# Altium footprint library GavinPCBLib.PcbLib: 22 footprints (part 2 of 2)
Each footprint in its own frame and in the unit in brackets; x right, y up, seen from the top. Pads: shape width x height; smd on the part's side, far side on the other; paste and mask are expansions set on the pad; w line width, h text height; cw(c..) or ccw(c..) is an arc to the next point about the centre after c.
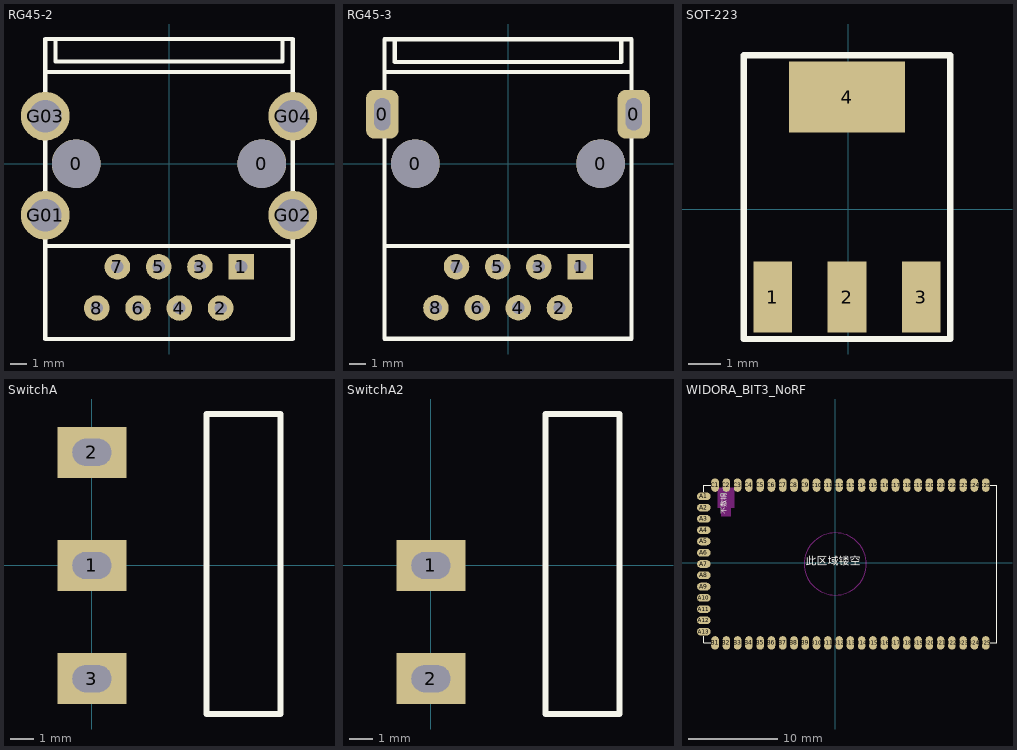
[diagram p1: the footprints below, top view; thin cyan lines are the x and y axes]

## RG45-2 [mil]
pads (14):
  round 118.11 hole 118.11: 0(-225,0) 0(225,0)
  rect 62x62 hole 30: 1(175,-250)
  round 62 hole 30: 2(125,-350) 3(75,-250) 4(25,-350) 5(-25,-250) 6(-75,-350) 7(-125,-250) 8(-175,-350)
  round 118.11 hole 78.74: G01(-300,-125) G02(300,-125) G03(-300,115) G04(300,115)
Top Overlay:
  lines w10: -300,-200 300,-200 ; -300,222.24 300,222.24 ; -275,297.24 -275,247.24 275,247.24 275,297.24 ; -300,-425 -300,250 -300,302.18 300,302.18 300,250 300,-425 -300,-425
3D body "RJ45-8P-Pipe-Cat6.step": height 572.83, standoff -141.73, extent -348,-543.44 344.91,401.44

## RG45-3 [mil]
pads (12):
  rrect50% 78.74x118.11 hole 78.74 slot 39.37 at 0 deg: 0(-305.12,120.08)
  round 118.11 hole 118.11: 0(-225,0) 0(225,0)
  rrect50% 78.74x118 hole 78.74 slot 39.37 at 0 deg: 0(305.12,120.08)
  rect 62x62 hole 30: 1(175,-250)
  round 62 hole 30: 2(125,-350) 3(75,-250) 4(25,-350) 5(-25,-250) 6(-75,-350) 7(-125,-250) 8(-175,-350)
Top Overlay:
  lines w10: -300,-200 300,-200 ; -300,222.24 300,222.24 ; -275,297.24 -275,247.24 275,247.24 275,297.24 ; -300,-425 -300,250 -300,302.18 300,302.18 300,250 300,-425 -300,-425
3D body "RJ45-8P-Pipe-Cat6.step": height 572.83, standoff -141.73, extent -348,-543.44 344.91,401.44

## SOT-223 [mm]
pads (4):
  rect 1.2x2.2 smd: 1(-2.337,-2.718) 2(-0.037,-2.718) 3(2.263,-2.718)
  rect 3.6x2.2 smd: 4(-0.037,3.482)
Top Overlay:
  lines w0.2: -3.237,-4.018 -3.237,4.782 3.163,4.782 3.163,-4.018 -3.237,-4.018
3D body "SOT-223_MP04A.STEP": height -0.38, standoff -2.08, extent -3.302,-3.023 3.198,3.937

## SwitchA [mil]
pads (3):
  rect 115x85 hole 45 slot 65 at 0 deg: 1(0,0) 2(0,188.98) 3(0,-188.98)
Top Overlay:
  lines w10: 191.73,252 191.73,-248 314.96,-248 314.96,252 ; 191.73,253 314.96,253

## SwitchA2 [mil]
pads (2):
  rect 115x85 hole 45 slot 65 at 0 deg: 1(0,0) 2(0,-188.98)
Top Overlay:
  lines w10: 191.73,252 191.73,-248 314.96,-248 314.96,252 ; 191.73,253 314.96,253

## WIDORA_BIT3_NoRF [mil]
pads (63):
  oval 60x34 smd mask+2: A1(-584,295) A2(-584,245) A3(-584,195) A4(-584,145) A5(-584,95) A6(-584,45) A7(-584,-5) A8(-584,-55) A9(-584,-105) A10(-584,-155) A11(-584,-205) A12(-584,-255) A13(-584,-305)
  oval 34x60 smd mask+2: B1(-534,-355) B2(-484,-355) B3(-434,-355) B4(-384,-355) B5(-334,-355) B6(-284,-355) B7(-234,-355) B8(-184,-355) B9(-134,-355) B10(-84,-355) B11(-34,-355) B12(16,-355) B13(66,-355) B14(116,-355) B15(166,-355) B16(216,-355) B17(266,-355) B18(316,-355) B19(366,-355) B20(416,-355) B21(466,-355) B22(516,-355) B23(566,-355) B24(616,-355) B25(666,-355) C1(-534,345) C2(-484,345) C3(-434,345) C4(-384,345) C5(-334,345) C6(-284,345) C7(-234,345) C8(-184,345) C9(-134,345) C10(-84,345) C11(-34,345) C12(16,345) C13(66,345) C14(116,345) C15(166,345) C16(216,345) C17(266,345) C18(316,345) C19(366,345) C20(416,345) C21(466,345) C22(516,345) C23(566,345) C24(616,345) C25(666,345)
Top Overlay:
  lines w3.94: -584,-325 -584,-355 -554,-355 ; -584,315 -584,345 -554,345 ; 686,-355 716,-355 716,345 686,345
  text "不敷铜" at -476,216 h40
  text "此区域镂空" at -132,-21 h60
Keep-Out Layer:
  pour cut-out: -522.61,331.97 -522.61,245.32 -506.91,245.32 -506.91,205.97 -463.56,205.97 -463.56,245.32 -447.81,245.32 -447.81,331.97
Keep-Out Layer:
  circle w3.94: c-0.87,-4.87 r137.8